# Altium footprint library pcb_Module.PcbLib: 11 footprints
Each footprint in its own frame and in the unit in brackets; x right, y up, seen from the top. Pads: shape width x height; smd on the part's side, far side on the other; paste and mask are expansions set on the pad; w line width, h text height; cw(c..) or ccw(c..) is an arc to the next point about the centre after c.
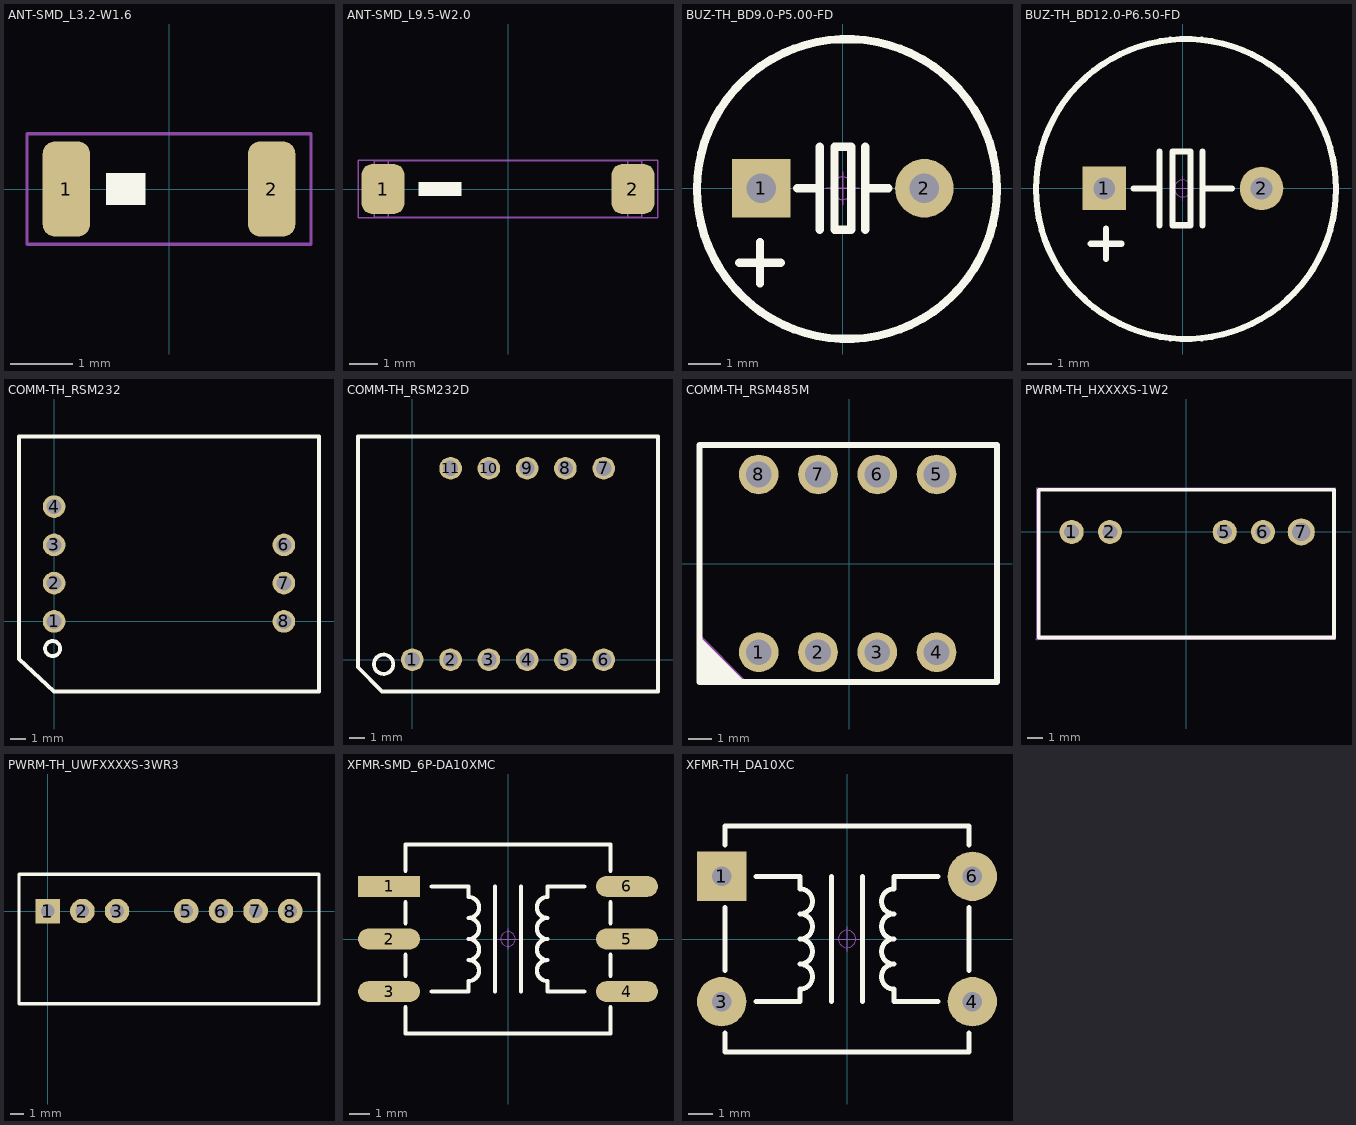
[diagram p0: the footprints below, top view; thin cyan lines are the x and y axes]

## ANT-SMD_L3.2-W1.6 [mil]
height 47.24
pads (2):
  rrect50% 30x60 smd: 1(-65,0) 2(65,0)
Top Overlay:
  rectangle: -40,-10 -15,10
Mechanical 14:
  lines w2: -90,-35 90,-35 90,35 -90,35 -90,-35
Mechanical 16:
  text ".Designator" at 0,0 h39.37
3D body "User Library-2450AT18A100E.STEP": height 53.15, standoff -1.97, extent -64.96,-33.46 64.96,33.47

## ANT-SMD_L9.5-W2.0 [mil]
height 47.24
pads (2):
  rrect50% 60x70 smd: 1(-175,0) 2(175,0)
Top Overlay:
  rectangle: -125,-10 -65,10
Mechanical 13:
  lines w2: -167.32,-39.37 -167.32,39.37 ; 167.32,-39.37 167.32,39.37 ; -187.01,-39.37 187.01,-39.37 187.01,39.37 -187.01,39.37 -187.01,-39.37
Mechanical 14:
  lines w2: -210,-40 210,-40 210,40 -210,40 -210,-40
Mechanical 16:
  text ".Designator" at 0,0 h39.37
3D body "User Library-ANTENNA_WLAN.STEP": height 40.16, standoff -0.79, extent -187.8,-40 187.8,40.31

## BUZ-TH_BD9.0-P5.00-FD [mm] "5*9*5.5mm(脚距,直径,高度)"
pads (2):
  rect 1.8x1.8 hole 0.9: 1(-2.5,0)
  round 1.8 hole 0.9: 2(2.5,0)
Top Overlay:
  circle w0.254: c0.127,-0.023 r4.6
  lines w0.254: -3.175,-2.286 -1.905,-2.286 ; -2.54,-2.921 -2.54,-1.651 ; -1.397,0 -0.709,0 ; -0.709,-1.27 -0.709,1.27 ; 0.685,-1.27 0.685,1.27 ; 0.812,0 1.397,0 ; -0.254,-1.27 -0.254,1.27 0.254,1.27 0.254,-1.27 -0.254,-1.27
Mechanical 15:
  circle w0.05: c0,0 r0.35
  lines w0.05: -0.5,0 0.5,0 ; 0,-0.5 0,0.5
Mechanical 16:
  text ".Designator" at 0,0 h1
3D body "BEEP 5x9x5.5.STEP": height 5.45, standoff -3.55, extent -4.5,-4.5 4.5,4.5

## BUZ-TH_BD12.0-P6.50-FD [mm] "6.5*12*6mm(脚距,直径,高度)"
pads (2):
  rect 1.8x1.8 hole 0.9: 1(-3.25,0)
  round 1.8 hole 0.9: 2(3.25,0)
Top Overlay:
  circle w0.254: c0.127,-0.023 r6.2
  lines w0.254: -3.81,-2.286 -2.54,-2.286 ; -3.175,-2.921 -3.175,-1.651 ; -2.032,0 -0.963,0 ; -0.963,-1.524 -0.963,1.524 ; 0.812,-1.524 0.812,1.524 ; 0.812,0 2.032,0 ; -0.438,-1.524 -0.438,1.524 0.312,1.524 0.312,-1.524 -0.438,-1.524
Mechanical 15:
  circle w0.05: c0,0 r0.35
  lines w0.05: -0.5,0 0.5,0 ; 0,-0.5 0,0.5
Mechanical 16:
  text ".Designator" at 0,0 h1
3D body "BEEP 6.5x12x6.STEP": height 6.05, standoff -3.25, extent -6,-6 6,6

## COMM-TH_RSM232 [mm]
height 1.9
pads (7):
  round 1.5 hole 1: 1(0,0) 2(0,2.54) 3(0,5.08) 4(0,7.62) 6(15.24,5.08) 7(15.24,2.54) 8(15.24,0)
Top Overlay:
  circle w0.254: c-0.1,-1.8 r0.5
  lines w0.254: -2.33,-2.5 -2.33,12.26 17.57,12.26 17.57,-4.64 0,-4.64 -2.33,-2.5
Mechanical 16:
  text ".Designator" at 0,0 h1
3D body: height 7.1, standoff 0, extent -2.5,-5 17.5,12

## COMM-TH_RSM232D [mm]
height 1.9
pads (11):
  round 1.5 hole 1: 1(0,0) 2(2.54,0) 3(5.08,0) 4(7.62,0) 5(10.16,0) 6(12.7,0) 7(12.7,12.7) 8(10.16,12.7) 9(7.62,12.7) 10(5.08,12.7) 11(2.54,12.7)
Top Overlay:
  circle w0.254: c-1.9,-0.3 r0.64
  lines w0.254: -3.6,-0.5 -3.6,14.8 16.3,14.8 16.3,-2.1 -2,-2.1 -3.6,-0.5
Mechanical 16:
  text ".Designator" at 0,0 h1
3D body: height 7.1, standoff 7, extent -2.596,-1.098 -0.604,0.898
3D body: height 7, standoff 0, extent -3.6,-2.1 16.3,14.8

## COMM-TH_RSM485M [mm]
pads (8):
  round 1.7 hole 1.1: 1(-3.885,-3.785) 2(-1.345,-3.785) 3(1.195,-3.785) 4(3.735,-3.785) 5(3.735,3.835) 6(1.195,3.835) 7(-1.345,3.835) 8(-3.885,3.835)
Top Overlay:
  region: -6.425,-5.055 -4.495,-5.055 -6.425,-3.125
  lines w0.254: -6.425,-5.055 6.326,-5.055 6.326,5.105 -6.425,5.105 -6.425,-5.055
Mechanical 6:
  region: -6.425,-5.055 -4.393,-5.055 -6.425,-3.023
Mechanical 15:
  drawing of 13 lines, arcs and shapes, not listed
Mechanical 16:
  text ".Designator" at -0.025,-0.025 h1
3D body "3D_PCB1_2024-05-09.step": height 7.72, standoff -3.48, extent -6.475,-5.075 6.325,5.125

## PWRM-TH_HXXXXS-1W2 [mm]
height 7
pads (5):
  round 1.6 hole 1 paste-2539.97 mask+0.051: 1(-7.62,0) 2(-5.08,0) 5(2.54,0) 6(5.08,0)
  round 1.8 hole 1.2 paste-2539.97 mask+0.051: 7(7.62,0)
Top Overlay:
  lines w0.254: -9.8,2.795 -9.8,-7 9.8,-7 9.8,2.8 -9.8,2.8
Mechanical 15:
  region: -9.867,-7.127 -9.867,-7.102 -9.902,-7.067 -9.952,-7.067 -9.987,-7.102 -9.987,-7.127 -9.987,-7.152 -9.952,-7.187 -9.902,-7.187 -9.867,-7.152
  region: 8.12,0 8.12,0.099 8.044,0.283 7.903,0.424 7.719,0.5 7.521,0.5 7.337,0.424 7.196,0.283 7.12,0.099 7.12,0 7.12,-0.099 7.196,-0.283 7.337,-0.424 7.521,-0.5 7.719,-0.5 7.903,-0.424 8.044,-0.283 8.12,-0.099
  region: 2.94,0 2.94,0.08 2.879,0.227 2.767,0.339 2.62,0.4 2.46,0.4 2.313,0.339 2.201,0.227 2.14,0.08 2.14,0 2.14,-0.08 2.201,-0.227 2.313,-0.339 2.46,-0.4 2.62,-0.4 2.767,-0.339 2.879,-0.227 2.94,-0.08
  region: -4.68,0 -4.68,0.08 -4.741,0.227 -4.853,0.339 -5,0.4 -5.16,0.4 -5.307,0.339 -5.419,0.227 -5.48,0.08 -5.48,0 -5.48,-0.08 -5.419,-0.227 -5.307,-0.339 -5.16,-0.4 -5,-0.4 -4.853,-0.339 -4.741,-0.227 -4.68,-0.08
  region: -7.22,0 -7.22,0.08 -7.281,0.227 -7.393,0.339 -7.54,0.4 -7.7,0.4 -7.847,0.339 -7.959,0.227 -8.02,0.08 -8.02,0 -8.02,-0.08 -7.959,-0.227 -7.847,-0.339 -7.7,-0.4 -7.54,-0.4 -7.393,-0.339 -7.281,-0.227 -7.22,-0.08
  lines w0.051: -9.927,-7.127 -9.927,2.927 9.927,2.927 9.927,-7.127 -9.927,-7.127
Mechanical 16:
  text ".Designator" at 0,0 h1
3D body: height 12.5, standoff 0, extent -9.754,-6.985 9.83,2.794

## PWRM-TH_UWFXXXXS-3WR3 [mm]
height 1.9
pads (7):
  rect 1.8x1.8 hole 1: 1(0,0)
  round 1.8 hole 1: 2(2.54,0) 3(5.08,0) 5(10.16,0) 6(12.7,0) 7(15.24,0) 8(17.78,0)
Top Overlay:
  lines w0.254: 19.891,-6.8 -2.111,-6.8 -2.111,2.7 19.891,2.7 19.891,-6.731
Mechanical 16:
  text ".Designator" at 0,0 h1

## XFMR-SMD_6P-DA10XMC [mm] "9mm*9.52mm*6.35mm(长*宽*高)"
pads (6):
  rect 3x1 smd: 1(-5.75,2.54)
  oval 3x1 smd: 2(-5.75,0) 3(-5.75,-2.54) 4(5.75,-2.54) 5(5.75,0) 6(5.75,2.54)
Top Overlay:
  lines w0.203: -4.953,-3.302 -4.953,-4.572 4.953,-4.572 4.953,-3.302 ; -4.953,-1.778 -4.953,-0.762 ; -4.953,0.762 -4.953,1.778 ; -4.953,3.302 -4.953,4.572 4.953,4.572 4.953,3.302 ; -3.683,-2.54 -1.905,-2.54 -1.905,-2.032 ccw(c-1.905,-1.524) -1.905,-1.016 ccw(c-1.905,-0.508) -1.905,0 ccw(c-1.905,0.508) -1.905,1.016 ccw(c-1.905,1.524) -1.905,2.032 -1.905,2.54 -3.683,2.54 ; -0.635,-2.54 -0.635,2.54 ; 0.635,-2.54 0.635,2.54 ; 3.683,-2.54 1.905,-2.54 1.905,-2.032 cw(c1.905,-1.524) 1.905,-1.016 cw(c1.905,-0.508) 1.905,0 cw(c1.905,0.508) 1.905,1.016 cw(c1.905,1.524) 1.905,2.032 1.905,2.54 3.683,2.54 ; 4.953,-1.778 4.953,-0.762 ; 4.953,0.762 4.953,1.778
Mechanical 15:
  circle w0.05: c0,0 r0.35
  lines w0.05: -0.5,0 0.5,0 ; 0,-0.5 0,0.5
Mechanical 16:
  text ".Designator" at 0,0 h1
3D body "DA10XMC.STEP": height 6.45, standoff -0.03, extent -6.35,-4.5 6.35,4.5

## XFMR-TH_DA10XC [mm] "9mm*9.52mm*6.35mm(长*宽*高)"
pads (4):
  rect 2x2 hole 0.8 unplated: 1(-5.08,2.54)
  round 2 hole 0.8 unplated: 3(-5.08,-2.54) 4(5.08,-2.54) 6(5.08,2.54)
Top Overlay:
  lines w0.203: -4.953,-3.81 -4.953,-4.572 4.953,-4.572 4.953,-3.81 ; -4.953,-1.27 -4.953,1.27 ; -4.953,3.81 -4.953,4.572 4.953,4.572 4.953,3.81 ; -3.683,-2.54 -1.905,-2.54 -1.905,-2.032 ccw(c-1.905,-1.524) -1.905,-1.016 ccw(c-1.905,-0.508) -1.905,0 ccw(c-1.905,0.508) -1.905,1.016 ccw(c-1.905,1.524) -1.905,2.032 -1.905,2.54 -3.683,2.54 ; -0.635,-2.54 -0.635,2.54 ; 0.635,-2.54 0.635,2.54 ; 3.683,-2.54 1.905,-2.54 1.905,-2.032 cw(c1.905,-1.524) 1.905,-1.016 cw(c1.905,-0.508) 1.905,0 cw(c1.905,0.508) 1.905,1.016 cw(c1.905,1.524) 1.905,2.032 1.905,2.54 3.683,2.54 ; 4.953,-1.27 4.953,1.27
Mechanical 15:
  circle w0.05: c0,0 r0.35
  lines w0.05: -0.5,0 0.5,0 ; 0,-0.5 0,0.5
Mechanical 16:
  text ".Designator" at 0,0 h1
3D body "DA10XC.STEP": height 6.4, standoff -3.45, extent -5.205,-4.5 5.205,4.5